# Altium footprint library wurth-trafo.PcbLib: 4 footprints
Each footprint in its own frame and in the unit in brackets; x right, y up, seen from the top. Pads: shape width x height; smd on the part's side, far side on the other; paste and mask are expansions set on the pad; w line width, h text height; cw(c..) or ccw(c..) is an arc to the next point about the centre after c.
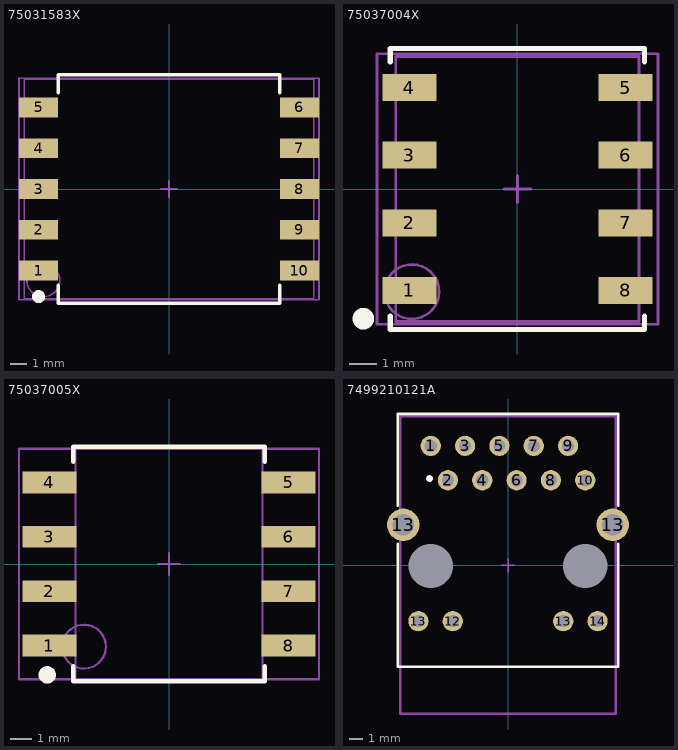
[diagram p0: the footprints below, top view; thin cyan lines are the x and y axes]

## 75031583X [mm] "SMD Transformer 17.75x13.46x12.7mm"
height 12.7
pads (10):
  rect 2.4x1.2 smd: 1(-8,-5) 2(-8,-2.5) 3(-8,0) 4(-8,2.5) 5(-8,5) 6(8,5) 7(8,2.5) 8(8,0) 9(8,-2.5) 10(8,-5)
Top Overlay:
  circle w0.4: c-8,-6.6 r0.2
  lines w0.2: -6.8,-5.9 -6.8,-7 6.8,-7 6.8,-5.9 ; -6.8,5.9 -6.8,7 6.8,7 6.8,5.9
Mechanical 13:
  lines w0.1: -0.5,0 0.5,0 ; 0,-0.5 0,0.5 ; -8.875,-6.75 -8.875,6.75 8.875,6.75 8.875,-6.75 -8.875,-6.75
Mechanical 15:
  circle w0.1: c-7.708,-5.6 r1.008
  lines w0.1: -9.2,-6.8 -9.2,6.8 9.2,6.8 9.2,-6.8 -9.2,-6.8
  text ".Designator" at -3.5,0 h1
3D body: height 12.55, standoff 0.05, extent -8.875,-6.75 8.875,6.75

## 75037004X [mm] "SMD Transformer 9.14x9.78x10.54mm"
height 10.54
pads (8):
  rect 2x1 smd: 1(-4,-3.75) 2(-4,-1.25) 3(-4,1.25) 4(-4,3.75) 5(4,3.75) 6(4,1.25) 7(4,-1.25) 8(4,-3.75)
Top Overlay:
  circle w0.4: c-5.7,-4.8 r0.2
  lines w0.2: -4.7,-4.7 -4.7,-5.2 4.7,-5.2 4.7,-4.7 ; -4.7,4.7 -4.7,5.2 4.7,5.2 4.7,4.7
Mechanical 13:
  lines w0.1: -0.5,0 0.5,0 ; 0,-0.5 0,0.5 ; -4.5,-4.9 4.5,-4.9 4.5,4.9 -4.5,4.9 -4.5,-4.9
Mechanical 15:
  circle w0.1: c-3.908,-3.8 r1.008
  lines w0.1: -5.2,-5 5.2,-5 5.2,5 -5.2,5 -5.2,-5
  text ".Designator" at -2.075,-4.1 h0.5
3D body: height 10.55, standoff 0.01, extent -4.57,-4.902 4.57,4.878

## 75037005X [mm] "SMD Transformer 13.35x10.8x9.14mm"
height 10.54
pads (8):
  rect 2.5x1 smd: 1(-5.5,-3.75) 2(-5.5,-1.25) 3(-5.5,1.25) 4(-5.5,3.75) 5(5.5,3.75) 6(5.5,1.25) 7(5.5,-1.25) 8(5.5,-3.75)
Top Overlay:
  circle w0.4: c-5.6,-5.1 r0.2
  lines w0.2: -4.4,-4.7 -4.4,-5.4 4.4,-5.4 4.4,-4.7 ; -4.4,4.7 -4.4,5.4 4.4,5.4 4.4,4.7
Mechanical 13:
  lines w0.1: -0.5,0 0.5,0 ; 0,-0.5 0,0.5 ; -4.3,-5.3 -4.3,5.3 4.3,5.3 4.3,-5.3 -4.3,-5.3
Mechanical 15:
  circle w0.1: c-3.908,-3.8 r1.008
  lines w0.1: -6.9,-5.3 -6.9,5.3 6.9,5.3 6.9,-5.3 -6.9,-5.3
  text ".Designator" at -2.075,-4.1 h0.5
3D body: height 9.14, standoff 2.74, extent -3.8,-4.6 3.8,4.6
3D body: height 2.74, standoff 0, extent -4.3,-5.3 4.3,5.3
3D body: height 0.5, standoff 0, extent -6.3,-4.1 -4.3,-3.4
3D body: height 0.5, standoff 0, extent -6.3,-1.6 -4.3,-0.9
3D body: height 0.5, standoff 0, extent -6.3,3.4 -4.3,4.1
3D body: height 0.5, standoff 0, extent -6.3,0.9 -4.3,1.6
3D body: height 0.5, standoff 0, extent 4.3,0.9 6.3,1.6
3D body: height 0.5, standoff 0, extent 4.3,3.4 6.3,4.1
3D body: height 0.5, standoff 0, extent 4.3,-1.6 6.3,-0.9
3D body: height 0.5, standoff 0, extent 4.3,-4.1 6.3,-3.4

## 7499210121A [mm] "Modular Jack, Right Angle PTH"
height 13.95
pads (18):
  round 0 hole 3.27 unplated: 0(-5.715,-0.05) 0(5.715,-0.05)
  round 1.5 hole 0.9 unplated: 1(-5.715,8.84) 2(-4.445,6.3) 3(-3.175,8.84) 4(-1.905,6.3) 5(-0.635,8.84) 6(0.635,6.3) 7(1.905,8.84) 8(3.175,6.3) 9(4.445,8.84) 10(5.715,6.3) 12(-4.09,-4.13) 13(-6.63,-4.13) 13(4.09,-4.13) 14(6.63,-4.13)
  round 2.4 hole 1.6 unplated: 13(-7.75,3) 13(7.75,3)
Top Overlay:
  circle w0.25: c-5.8,6.425 r0.125
  lines w0.2: -8.15,1.6 -8.15,-7.5 8.15,-7.5 8.15,1.6 ; -8.15,4.4 -8.15,11.2 8.15,11.2 8.15,4.4
Mechanical 13:
  lines w0.1: -0.5,0 0.5,0 ; 0,-0.5 0,0.5 ; -7.95,-10.95 7.95,-10.95 7.95,11 -7.95,11 -7.95,-10.95
Mechanical 15:
  lines w0.1: -8,-11 -8,11.05 8,11.05 8,-11 -8,-11
  text ".Designator" at -2.55,-3.3 h1
3D body: height 13.98, standoff -4.15, extent -7.94,-10.92 7.94,10.92